# Altium footprint library PcbLib1.PcbLib: 1 footprints
Each footprint in its own frame and in the unit in brackets; x right, y up, seen from the top. Pads: shape width x height; smd on the part's side, far side on the other; paste and mask are expansions set on the pad; w line width, h text height; cw(c..) or ccw(c..) is an arc to the next point about the centre after c.
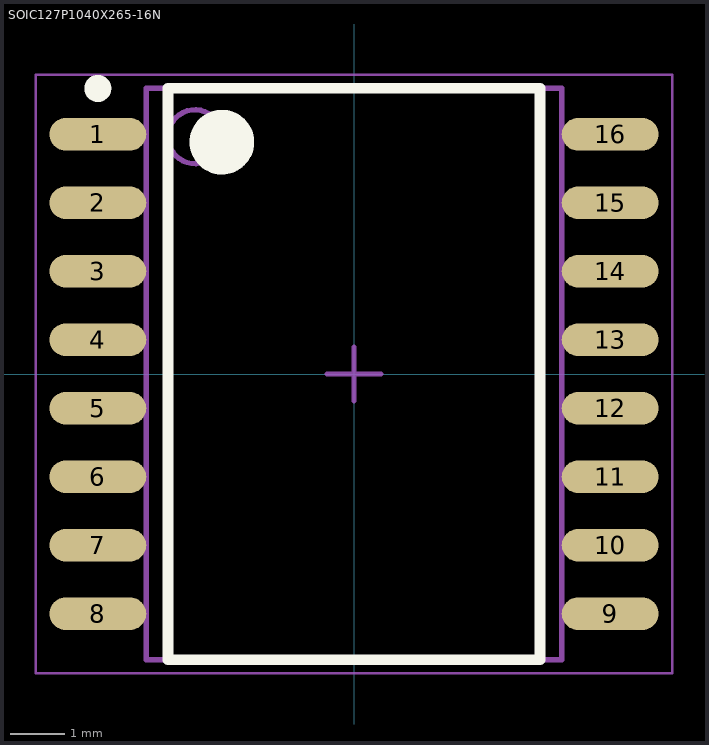
[diagram p0: the footprint, top view; thin cyan lines are the x and y axes]

## SOIC127P1040X265-16N [mm] "SOIC, 16-Leads, Body 10,35x7,50mm, Pitch 1,27mm, IPC Medium Density"
height 2.65
pads (16):
  oval 1.8x0.6 smd: 1(-4.75,4.445) 2(-4.75,3.175) 3(-4.75,1.905) 4(-4.75,0.635) 5(-4.75,-0.635) 6(-4.75,-1.905) 7(-4.75,-3.175) 8(-4.75,-4.445) 9(4.75,-4.445) 10(4.75,-3.175) 11(4.75,-1.905) 12(4.75,-0.635) 13(4.75,0.635) 14(4.75,1.905) 15(4.75,3.175) 16(4.75,4.445)
Top Overlay:
  circle w0.25: c-4.75,5.295 r0.125
  circle w0.6: c-2.45,4.3 r0.3
  lines w0.2: -3.45,-5.3 -3.45,5.3 3.45,5.3 3.45,-5.3 -3.45,-5.3
Mechanical 13:
  circle w0.1: c-2.95,4.4 r0.5
  lines w0.1: -3.85,-5.3 -3.85,5.3 3.85,5.3 3.85,-5.3 -3.85,-5.3
Mechanical 15:
  lines w0.05: -5.9,-5.55 -5.9,5.55 5.9,5.55 5.9,-5.55 -5.9,-5.55
  lines w0.1: -0.5,0 0.5,0 ; 0,-0.5 0,0.5
3D body: height 2.65, standoff 0.1, extent -3.85,-5.3 3.85,5.3